# EAGLE library part AD768 (library analogdevices-DAC)
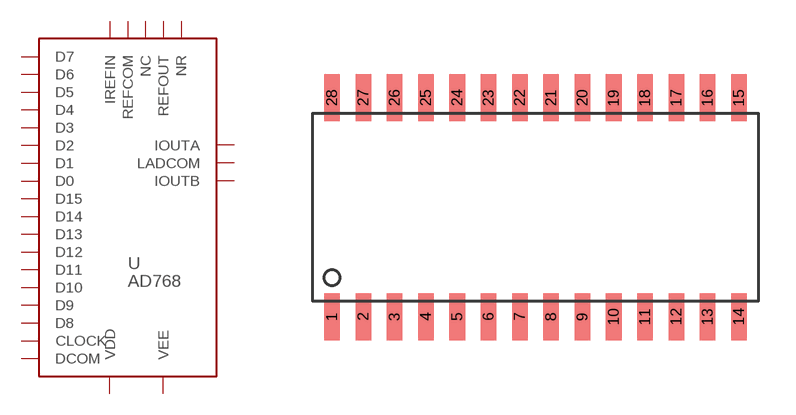
[diagram p0: symbol with the pads of SOIC28; footprint SOIC28]

Designator prefix -

## AD768  [SOIC28]
1  IOUTA
2  NR
3  REFOUT
4  NC
5  REFCOM
6  IREFIN
7  D0
8  D1
9  D2
10  D3
11  D4
12  D5
13  D6
14  D7
15  DCOM
16  CLOCK
17  D8
18  D9
19  D10
20  D11
21  D12
22  D13
23  D14
24  D15
25  VDD
26  VEE
27  IOUTB
28  LADCOM

## Footprint SOIC28 (pad centres in mm)
smd 0.635 x 1.905: 1 -8.255,-4.445; 2 -6.985,-4.445; 3 -5.715,-4.445; 4 -4.445,-4.445; 5 -3.175,-4.445; 6 -1.905,-4.445; 7 -0.635,-4.445; 8 0.635,-4.445; 9 1.905,-4.445; 10 3.175,-4.445; 11 4.445,-4.445; 12 5.715,-4.445; 13 6.985,-4.445; 14 8.255,-4.445; 15 8.255,4.445; 16 6.985,4.445; 17 5.715,4.445; 18 4.445,4.445; 19 3.175,4.445; 20 1.905,4.445; 21 0.635,4.445; 22 -0.635,4.445; 23 -1.905,4.445; 24 -3.175,4.445; 25 -4.445,4.445; 26 -5.715,4.445; 27 -6.985,4.445; 28 -8.255,4.445